# EAGLE library part DPDT (library Fidget_Spinner)
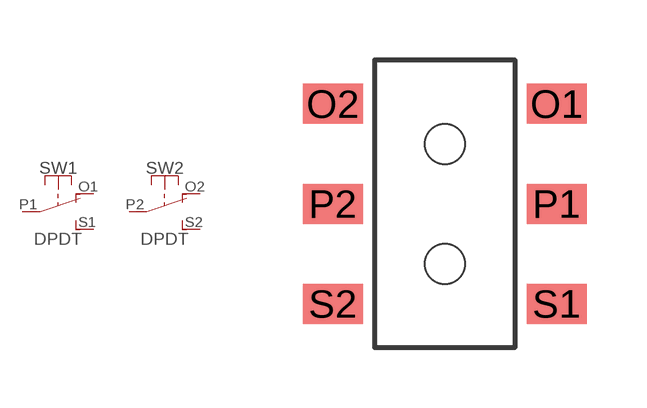
[diagram p2: symbol with the pads of EG1390; footprint EG1390]

Designator prefix SW; gates 1=TSU 2=TSU

## DPDT-EG1390  [EG1390]
O1  1:O  pas
O2  2:O  pas
P1  1:P  pas
P2  2:P  pas
S1  1:S  pas
S2  2:S  pas

## Footprint EG1390 (pad centres in mm)
smd 1.5 x 1: O1 2.8,2.5; O2 -2.8,2.5; P1 2.8,0; P2 -2.8,0; S1 2.8,-2.5; S2 -2.8,-2.5
hole 1 at 0,-1.5
hole 1 at 0,1.5